# Altium footprint library PCB - CONNECTOR - SAMTEC IPL1-109-01-L-D.PCBLIB: 1 footprints
Each footprint in its own frame and in the unit in brackets; x right, y up, seen from the top. Pads: shape width x height; smd on the part's side, far side on the other; paste and mask are expansions set on the pad; w line width, h text height; cw(c..) or ccw(c..) is an arc to the next point about the centre after c.
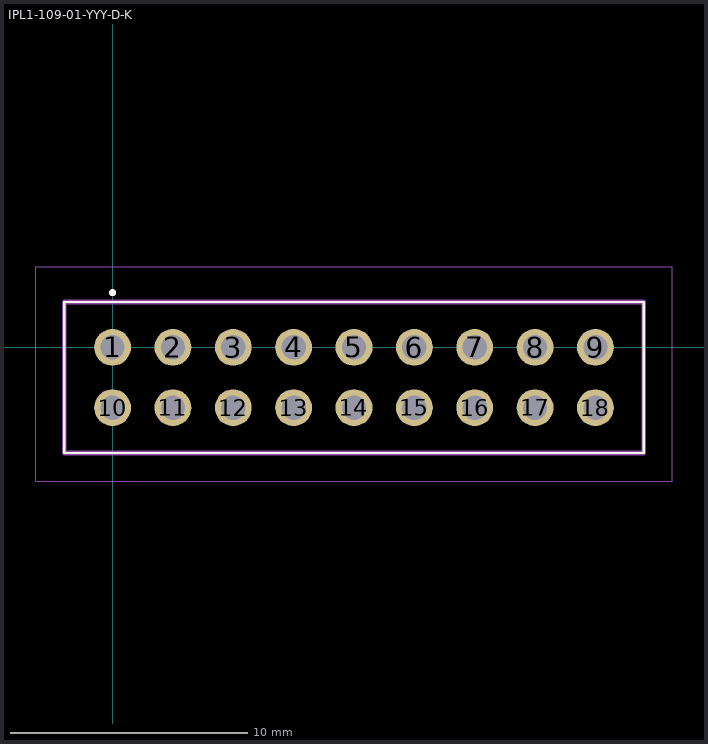
[diagram p0: the footprint, top view; thin cyan lines are the x and y axes]

## IPL1-109-01-YYY-D-K [mm]
pads (18):
  round 1.55 hole 1.02: 1(0,0) 2(2.54,0) 3(5.08,0) 4(7.62,0) 5(10.16,0) 6(12.7,0) 7(15.24,0) 8(17.78,0) 9(20.32,0) 10(0,-2.54) 11(2.54,-2.54) 12(5.08,-2.54) 13(7.62,-2.54) 14(10.16,-2.54) 15(12.7,-2.54) 16(15.24,-2.54) 17(17.78,-2.54) 18(20.32,-2.54)
Top Overlay:
  circle w0.2: c0,2.3 r0.05
  lines w0.1: -2.03,-4.445 22.35,-4.445 22.35,1.905 -2.03,1.905 -2.03,-4.445
Mechanical 13:
  lines w0.2: -2.03,-4.445 22.35,-4.445 22.35,1.905 -2.03,1.905 -2.03,-4.445
Mechanical 15:
  lines w0.05: -3.23,-5.645 23.55,-5.645 23.55,3.4 -3.23,3.4 -3.23,-5.645
3D body "IPL1-109-01-L-D.stp": height 8.13, standoff -3.05, extent -2.032,-5.41 22.352,2.464